# Altium footprint library PJ-102A.PcbLib: 1 footprints
Each footprint in its own frame and in the unit in brackets; x right, y up, seen from the top. Pads: shape width x height; smd on the part's side, far side on the other; paste and mask are expansions set on the pad; w line width, h text height; cw(c..) or ccw(c..) is an arc to the next point about the centre after c.
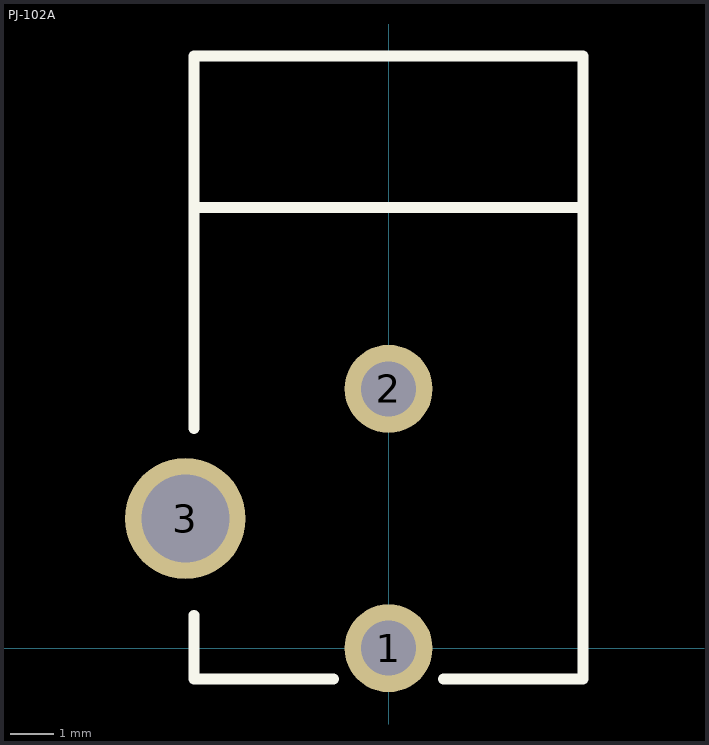
[diagram p0: the footprint, top view; thin cyan lines are the x and y axes]

## PJ-102A [mil]
pads (3):
  round 80 hole 50: 1(0,0) 2(0,236)
  round 110 hole 80: 3(-185,118)
Top Overlay:
  lines w10: -177,30 -177,-28 -50,-28 ; -177,200 -177,539 177,539 177,-28 50,-28 ; -177,401 177,401
3D body: height 434.17, standoff -136.7, extent -193.08,-27.96 177,538.96